# Altium schematic symbol library SCH - POWER - MODULE - TI-TLVM13620.SchLib: 1 symbol
Pins are listed as number, name and electrical type; pins without a type are passive.

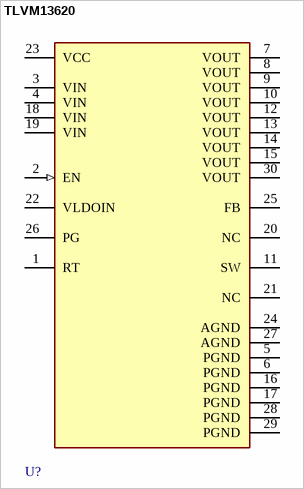
[diagram p0: symbol TLVM13620]

## TLVM13620
designator U?
3.6-V TO 36-V INPUT, 1-V TO 6-V
pins: 1 RT, 2 EN (in), 3 VIN (power), 4 VIN (power), 5 PGND (power), 6 PGND (power), 7 VOUT, 8 VOUT, 9 VOUT, 10 VOUT, 11 SW, 12 VOUT (power), 13 VOUT (power), 14 VOUT (power), 15 VOUT (power), 16 PGND (power), 17 PGND (power), 18 VIN (power), 19 VIN (power), 20 NC, 21 NC, 22 VLDOIN (power), 23 VCC, 24 AGND (power), 25 FB, 26 PG (oc), 27 AGND (power), 28 PGND (power), 29 PGND (power), 30 VOUT (power)